# Altium schematic symbol library TI Logic Decoder Demux.SchLib: 333 symbols (part 7 of 7)
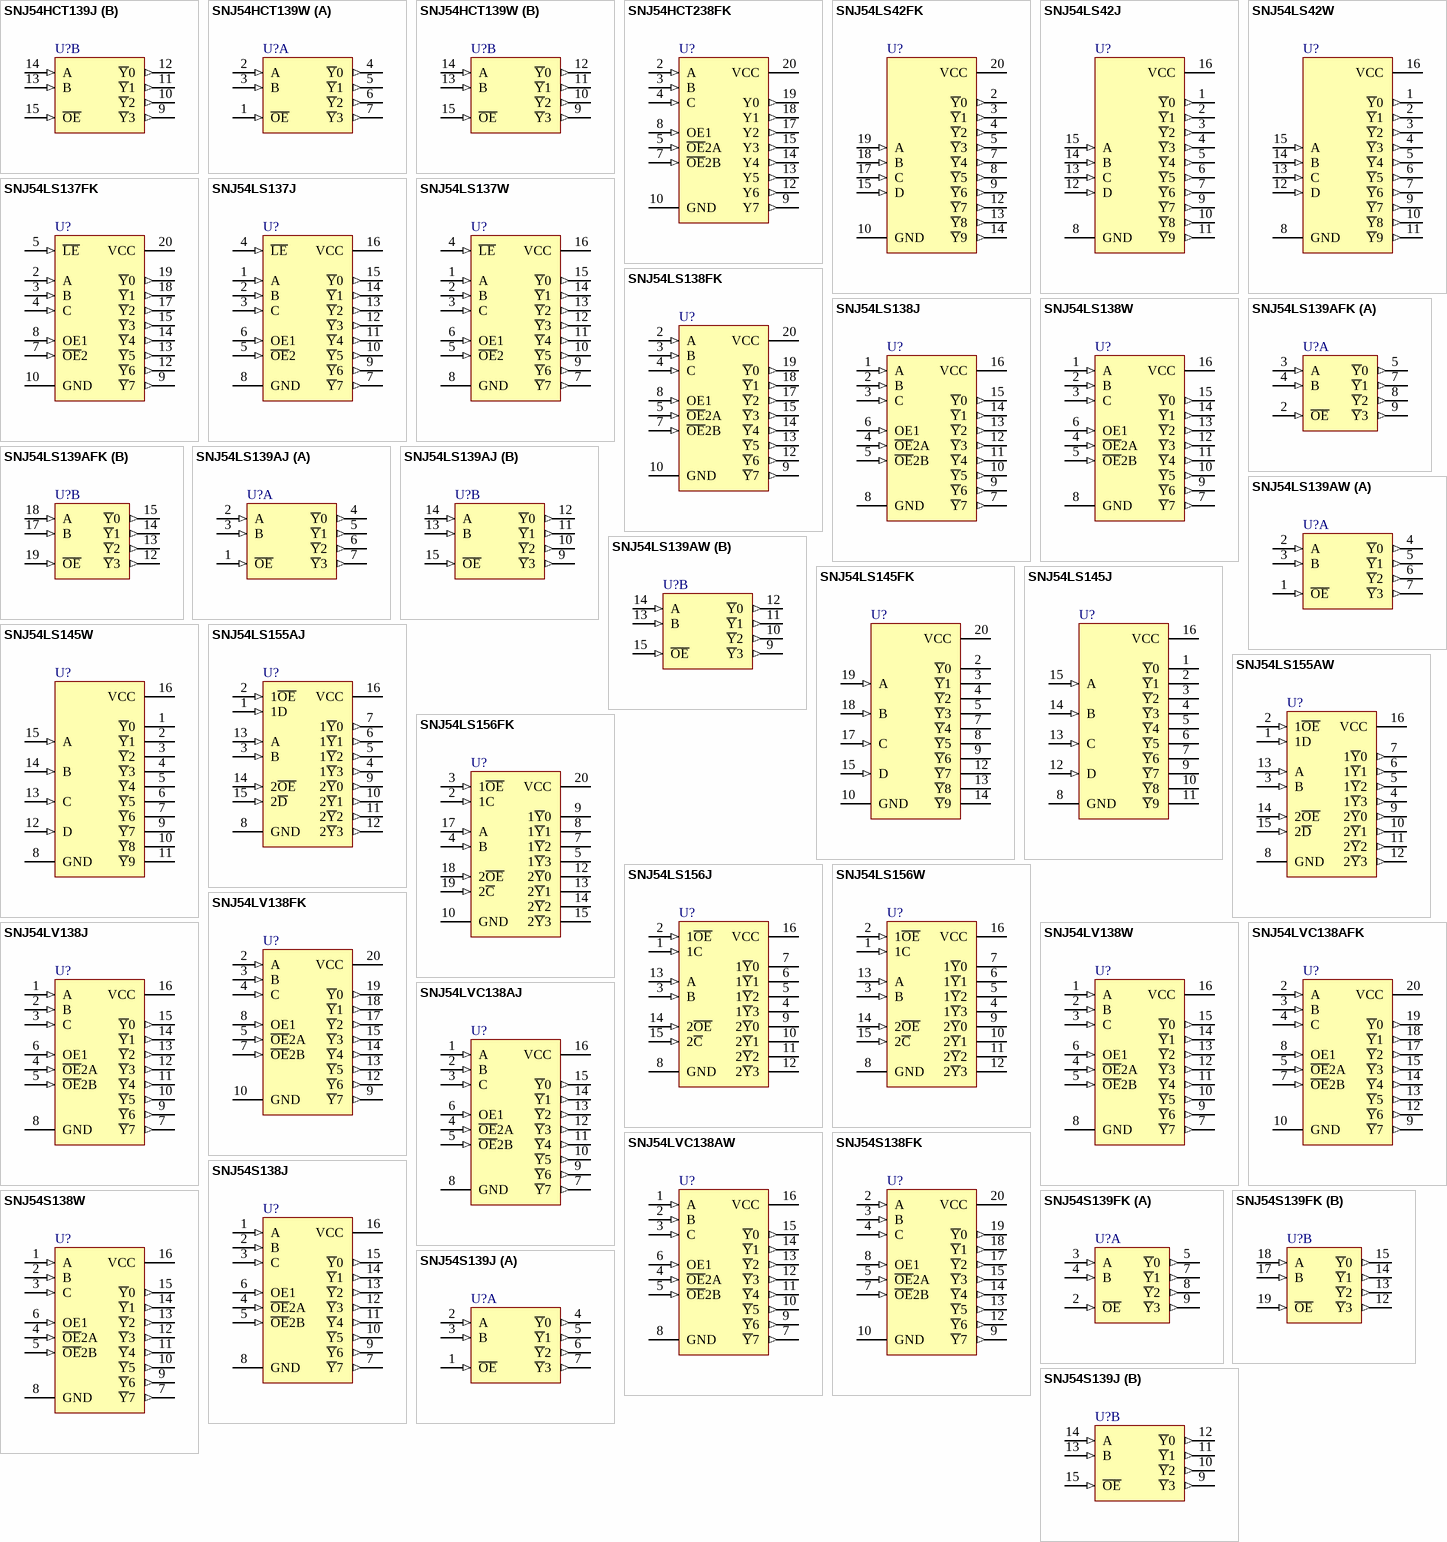
[diagram p16: symbols SNJ54HCT139J to SNJ54S139J]

## SNJ54HCT139W
designator U?
Dual 2-Line to 4-Line Decoder / Demultiplexer; Published: 8-Jun-2000; LatestRevisionDate: 04-Mar-2005; LatestRevisionNote: Stylized 3D Model Added.; DatasheetVersion: May-1997; PackageVersion: Jan-1995; PackageReference: W016; Publisher: Altium Limited; PackageDescription: DFP; 16 Leads; Body 10.9 x 7.2 mm (LxW max); Pitch 1.27 mm; Code_JEDEC: MO-092-AC; ComponentLink1Description: Manufacturer Link; ComponentLink1URL: http://www.ti.com/; ComponentLink2Description: Datasheet; ComponentLink2URL: http://www-s.ti.com/sc/ds/sn74hct139.pdf
footprint W016 (DFP; 16 Leads; Body 10.9 x 7.2 mm (LxW max); Pitch 1.27 mm)
3D model W016 (DFP; 16 Leads; Body 10.9 x 7.2 mm (LxW max); Pitch 1.27 mm)
signal-integrity model SNJ54HCT139W
pins on every part: 8 GND (power) hidden to GND, 16 VCC (power) hidden to VCC
part A pins: 1 ~{OE} (in), 2 A (in), 3 B (in), 4 ~{Y}0 (out), 5 ~{Y}1 (out), 6 ~{Y}2 (out), 7 ~{Y}3 (out)
part B pins: 9 ~{Y}3 (out), 10 ~{Y}2 (out), 11 ~{Y}1 (out), 12 ~{Y}0 (out), 13 B (in), 14 A (in), 15 ~{OE} (in)

## SNJ54HCT238FK
designator U?
3-Line to 8-Line Decoder / Demultiplexer; Note: Pins 1, 6, 11 and 16 are not connected and not drawn.; Published: 8-Jun-2000; LatestRevisionDate: 17-Jul-2002; LatestRevisionNote: Re-released for DXP Platform.; DatasheetVersion: Jun-1989; PackageVersion: 1998; PackageReference: FK020; Publisher: Altium Limited; PackageDescription: Leadless Chip Carrier; 20 Terminals; Body 8.9 x 8.9 mm; ComponentLink1Description: Manufacturer Link; ComponentLink1URL: http://www.ti.com/; ComponentLink2Description: URL Link1; ComponentLink2URL: http://focus.ti.com/docs/prod/folders/print/sn54hct238.html
footprint FK020 (Leadless Chip Carrier; 20 Terminals; Body 8.9 x 8.9 mm)
signal-integrity model SNJ54HCT238FK
pins: 2 A (in), 3 B (in), 4 C (in), 5 ~{OE}2A (in), 7 ~{OE}2B (in), 8 OE1 (in), 9 Y7 (out), 10 GND (power), 12 Y6 (out), 13 Y5 (out), 14 Y4 (out), 15 Y3 (out), 17 Y2 (out), 18 Y1 (out), 19 Y0 (out), 20 VCC (power)

## SNJ54LS42FK
designator U?
4-Line BCD to 10-Line Decimal Decoders; Note: Pins 1, 6, 11 and 16 are NC & are not drawn.; Published: 8-Jun-2000; LatestRevisionDate: 17-Jul-2002; LatestRevisionNote: Re-released for DXP Platform.; DatasheetVersion: Mar-1988; PackageVersion: 1998; PackageReference: FK020; Publisher: Altium Limited; PackageDescription: Leadless Chip Carrier; 20 Terminals; Body 8.9 x 8.9 mm; ComponentLink1Description: Manufacturer Link; ComponentLink1URL: http://www.ti.com/; ComponentLink2Description: Datasheet; ComponentLink2URL: http://www-s.ti.com/sc/ds/sn74ls42.pdf
footprint FK020 (Leadless Chip Carrier; 20 Terminals; Body 8.9 x 8.9 mm)
simulation model SN74LS42 (SIMCODE)
signal-integrity model SNJ54LS42FK
pins: 2 ~{Y}0 (out), 3 ~{Y}1 (out), 4 ~{Y}2 (out), 5 ~{Y}3 (out), 7 ~{Y}4 (out), 8 ~{Y}5 (out), 9 ~{Y}6 (out), 10 GND (power), 12 ~{Y}7 (out), 13 ~{Y}8 (out), 14 ~{Y}9 (out), 15 D (in), 17 C (in), 18 B (in), 19 A (in), 20 VCC (power)

## SNJ54LS42J
designator U?
4-Line BCD to 10-Line Decimal Decoders; Published: 8-Jun-2000; LatestRevisionDate: 04-Mar-2005; LatestRevisionNote: Stylized 3D Model Added.; DatasheetVersion: Mar-1988; PackageVersion: Jun-1999; PackageReference: J016; Publisher: Altium Limited; PackageDescription: DIP; 16 Leads; Row Spacing 7.62 mm; Pitch 2.54 mm; ComponentLink1Description: Manufacturer Link; ComponentLink1URL: http://www.ti.com/; ComponentLink2Description: Datasheet; ComponentLink2URL: http://www-s.ti.com/sc/ds/sn74ls42.pdf
footprint J016 (DIP; 16 Leads; Row Spacing 7.62 mm; Pitch 2.54 mm)
3D model J016 (DIP; 16 Leads; Row Spacing 7.62 mm; Pitch 2.54 mm)
simulation model SN74LS42 (SIMCODE)
signal-integrity model SNJ54LS42J
pins: 1 ~{Y}0 (out), 2 ~{Y}1 (out), 3 ~{Y}2 (out), 4 ~{Y}3 (out), 5 ~{Y}4 (out), 6 ~{Y}5 (out), 7 ~{Y}6 (out), 8 GND (power), 9 ~{Y}7 (out), 10 ~{Y}8 (out), 11 ~{Y}9 (out), 12 D (in), 13 C (in), 14 B (in), 15 A (in), 16 VCC (power)

## SNJ54LS42W
designator U?
4-Line BCD to 10-Line Decimal Decoders; Published: 8-Jun-2000; LatestRevisionDate: 04-Mar-2005; LatestRevisionNote: Stylized 3D Model Added.; DatasheetVersion: Mar-1988; PackageVersion: Jan-1995; PackageReference: W016; Publisher: Altium Limited; PackageDescription: DFP; 16 Leads; Body 10.9 x 7.2 mm (LxW max); Pitch 1.27 mm; Code_JEDEC: MO-092-AC; ComponentLink1Description: Manufacturer Link; ComponentLink1URL: http://www.ti.com/; ComponentLink2Description: Datasheet; ComponentLink2URL: http://www-s.ti.com/sc/ds/sn74ls42.pdf
footprint W016 (DFP; 16 Leads; Body 10.9 x 7.2 mm (LxW max); Pitch 1.27 mm)
3D model W016 (DFP; 16 Leads; Body 10.9 x 7.2 mm (LxW max); Pitch 1.27 mm)
simulation model SN74LS42 (SIMCODE)
signal-integrity model SNJ54LS42W
pins: 1 ~{Y}0 (out), 2 ~{Y}1 (out), 3 ~{Y}2 (out), 4 ~{Y}3 (out), 5 ~{Y}4 (out), 6 ~{Y}5 (out), 7 ~{Y}6 (out), 8 GND (power), 9 ~{Y}7 (out), 10 ~{Y}8 (out), 11 ~{Y}9 (out), 12 D (in), 13 C (in), 14 B (in), 15 A (in), 16 VCC (power)

## SNJ54LS137FK
designator U?
3-Line to 8-Line Decoder / Demultiplexer with Address Latches; Note: Pins 1, 6, 11 and 16 are not connected and not drawn.; ComponentAvailability: Obsolete; Published: 8-Jun-2000; LatestRevisionDate: 17-Jul-2002; LatestRevisionNote: Re-released for DXP Platform.; DatasheetVersion: Mar-1988; PackageVersion: 1998; PackageReference: FK020; Publisher: Altium Limited; PackageDescription: Leadless Chip Carrier; 20 Terminals; Body 8.9 x 8.9 mm; ComponentLink1Description: Manufacturer Link; ComponentLink1URL: http://www.ti.com/; ComponentLink2Description: Datasheet; ComponentLink2URL: http://www-s.ti.com/sc/ds/sn74ls137.pdf
footprint FK020 (Leadless Chip Carrier; 20 Terminals; Body 8.9 x 8.9 mm)
signal-integrity model SNJ54LS137FK
pins: 2 A (in), 3 B (in), 4 C (in), 5 ~{LE} (in), 7 ~{OE}2 (in), 8 OE1 (in), 9 ~{Y}7 (out), 10 GND (power), 12 ~{Y}6 (out), 13 ~{Y}5 (out), 14 ~{Y}4 (out), 15 ~{Y}3 (out), 17 ~{Y}2 (out), 18 ~{Y}1 (out), 19 ~{Y}0 (out), 20 VCC (power)

## SNJ54LS137J
designator U?
3-Line to 8-Line Decoder / Demultiplexer with Address Latches; Published: 8-Jun-2000; LatestRevisionDate: 04-Mar-2005; LatestRevisionNote: Stylized 3D Model Added.; DatasheetVersion: Mar-1988; PackageVersion: Jun-1999; PackageReference: J016; Publisher: Altium Limited; PackageDescription: DIP; 16 Leads; Row Spacing 7.62 mm; Pitch 2.54 mm; ComponentLink1Description: Manufacturer Link; ComponentLink1URL: http://www.ti.com/; ComponentLink2Description: Datasheet; ComponentLink2URL: http://www-s.ti.com/sc/ds/sn74ls137.pdf
footprint J016 (DIP; 16 Leads; Row Spacing 7.62 mm; Pitch 2.54 mm)
3D model J016 (DIP; 16 Leads; Row Spacing 7.62 mm; Pitch 2.54 mm)
signal-integrity model SNJ54LS137J
pins: 1 A (in), 2 B (in), 3 C (in), 4 ~{LE} (in), 5 ~{OE}2 (in), 6 OE1 (in), 7 ~{Y}7 (out), 8 GND (power), 9 ~{Y}6 (out), 10 ~{Y}5 (out), 11 ~{Y}4 (out), 12 ~{Y}3 (out), 13 ~{Y}2 (out), 14 ~{Y}1 (out), 15 ~{Y}0 (out), 16 VCC (power)

## SNJ54LS137W
designator U?
3-Line to 8-Line Decoder / Demultiplexer with Address Latches; ComponentAvailability: Obsolete; Published: 8-Jun-2000; LatestRevisionDate: 04-Mar-2005; LatestRevisionNote: Stylized 3D Model Added.; DatasheetVersion: Mar-1988; PackageVersion: Jan-1995; PackageReference: W016; Publisher: Altium Limited; PackageDescription: DFP; 16 Leads; Body 10.9 x 7.2 mm (LxW max); Pitch 1.27 mm; Code_JEDEC: MO-092-AC; ComponentLink1Description: Manufacturer Link; ComponentLink1URL: http://www.ti.com/; ComponentLink2Description: Datasheet; ComponentLink2URL: http://www-s.ti.com/sc/ds/sn74ls137.pdf
footprint W016 (DFP; 16 Leads; Body 10.9 x 7.2 mm (LxW max); Pitch 1.27 mm)
3D model W016 (DFP; 16 Leads; Body 10.9 x 7.2 mm (LxW max); Pitch 1.27 mm)
signal-integrity model SNJ54LS137W
pins: 1 A (in), 2 B (in), 3 C (in), 4 ~{LE} (in), 5 ~{OE}2 (in), 6 OE1 (in), 7 ~{Y}7 (out), 8 GND (power), 9 ~{Y}6 (out), 10 ~{Y}5 (out), 11 ~{Y}4 (out), 12 ~{Y}3 (out), 13 ~{Y}2 (out), 14 ~{Y}1 (out), 15 ~{Y}0 (out), 16 VCC (power)

## SNJ54LS138FK
designator U?
3-Line to 8-Line Decoder / Demultiplexer; Note: Pins 1, 6, 11 and 16 are NC & are not drawn.; Published: 8-Jun-2000; LatestRevisionDate: 17-Jul-2002; LatestRevisionNote: Re-released for DXP Platform.; DatasheetVersion: Mar-1988; PackageVersion: 1998; PackageReference: FK020; Publisher: Altium Limited; PackageDescription: Leadless Chip Carrier; 20 Terminals; Body 8.9 x 8.9 mm; ComponentLink1Description: Manufacturer Link; ComponentLink1URL: http://www.ti.com/; ComponentLink2Description: Datasheet; ComponentLink2URL: http://www-s.ti.com/sc/ds/sn74ls138.pdf
footprint FK020 (Leadless Chip Carrier; 20 Terminals; Body 8.9 x 8.9 mm)
simulation model SN74LS138 (SIMCODE)
signal-integrity model SNJ54LS138FK
pins: 2 A (in), 3 B (in), 4 C (in), 5 ~{OE}2A (in), 7 ~{OE}2B (in), 8 OE1 (in), 9 ~{Y}7 (out), 10 GND (power), 12 ~{Y}6 (out), 13 ~{Y}5 (out), 14 ~{Y}4 (out), 15 ~{Y}3 (out), 17 ~{Y}2 (out), 18 ~{Y}1 (out), 19 ~{Y}0 (out), 20 VCC (power)

## SNJ54LS138J
designator U?
3-Line to 8-Line Decoder / Demultiplexer; Published: 8-Jun-2000; LatestRevisionDate: 04-Mar-2005; LatestRevisionNote: Stylized 3D Model Added.; DatasheetVersion: Mar-1988; PackageVersion: Jun-1999; PackageReference: J016; Publisher: Altium Limited; PackageDescription: DIP; 16 Leads; Row Spacing 7.62 mm; Pitch 2.54 mm; ComponentLink1Description: Manufacturer Link; ComponentLink1URL: http://www.ti.com/; ComponentLink2Description: Datasheet; ComponentLink2URL: http://www-s.ti.com/sc/ds/sn74ls138.pdf
footprint J016 (DIP; 16 Leads; Row Spacing 7.62 mm; Pitch 2.54 mm)
3D model J016 (DIP; 16 Leads; Row Spacing 7.62 mm; Pitch 2.54 mm)
simulation model SN74LS138 (SIMCODE)
signal-integrity model SNJ54LS138J
pins: 1 A (in), 2 B (in), 3 C (in), 4 ~{OE}2A (in), 5 ~{OE}2B (in), 6 OE1 (in), 7 ~{Y}7 (out), 8 GND (power), 9 ~{Y}6 (out), 10 ~{Y}5 (out), 11 ~{Y}4 (out), 12 ~{Y}3 (out), 13 ~{Y}2 (out), 14 ~{Y}1 (out), 15 ~{Y}0 (out), 16 VCC (power)

## SNJ54LS138W
designator U?
3-Line to 8-Line Decoder / Demultiplexer; Published: 8-Jun-2000; LatestRevisionDate: 04-Mar-2005; LatestRevisionNote: Stylized 3D Model Added.; DatasheetVersion: Mar-1988; PackageVersion: Jan-1995; PackageReference: W016; Publisher: Altium Limited; PackageDescription: DFP; 16 Leads; Body 10.9 x 7.2 mm (LxW max); Pitch 1.27 mm; Code_JEDEC: MO-092-AC; ComponentLink1Description: Manufacturer Link; ComponentLink1URL: http://www.ti.com/; ComponentLink2Description: Datasheet; ComponentLink2URL: http://www-s.ti.com/sc/ds/sn74ls138.pdf
footprint W016 (DFP; 16 Leads; Body 10.9 x 7.2 mm (LxW max); Pitch 1.27 mm)
3D model W016 (DFP; 16 Leads; Body 10.9 x 7.2 mm (LxW max); Pitch 1.27 mm)
simulation model SN74LS138 (SIMCODE)
signal-integrity model SNJ54LS138W
pins: 1 A (in), 2 B (in), 3 C (in), 4 ~{OE}2A (in), 5 ~{OE}2B (in), 6 OE1 (in), 7 ~{Y}7 (out), 8 GND (power), 9 ~{Y}6 (out), 10 ~{Y}5 (out), 11 ~{Y}4 (out), 12 ~{Y}3 (out), 13 ~{Y}2 (out), 14 ~{Y}1 (out), 15 ~{Y}0 (out), 16 VCC (power)

## SNJ54LS139AFK
designator U?
Dual 2-Line to 4-Line Decoder / Demultiplexer; Note: Pins 1, 6, 11 and 16 are NC & are not drawn.; Published: 8-Jun-2000; LatestRevisionDate: 17-Jul-2002; LatestRevisionNote: Re-released for DXP Platform.; DatasheetVersion: Mar-1988; PackageVersion: 1998; PackageReference: FK020; Publisher: Altium Limited; PackageDescription: Leadless Chip Carrier; 20 Terminals; Body 8.9 x 8.9 mm; ComponentLink1Description: Manufacturer Link; ComponentLink1URL: http://www.ti.com/; ComponentLink2Description: Datasheet; ComponentLink2URL: http://www-s.ti.com/sc/ds/sn74ls139a.pdf
footprint FK020 (Leadless Chip Carrier; 20 Terminals; Body 8.9 x 8.9 mm)
simulation model SN74LS139 (SIMCODE)
signal-integrity model SNJ54LS139AFK
pins on every part: 10 GND (power) hidden to GND, 20 VCC (power) hidden to VCC
part A pins: 2 ~{OE} (in), 3 A (in), 4 B (in), 5 ~{Y}0 (out), 7 ~{Y}1 (out), 8 ~{Y}2 (out), 9 ~{Y}3 (out)
part B pins: 12 ~{Y}3 (out), 13 ~{Y}2 (out), 14 ~{Y}1 (out), 15 ~{Y}0 (out), 17 B (in), 18 A (in), 19 ~{OE} (in)

## SNJ54LS139AJ
designator U?
Dual 2-Line to 4-Line Decoder / Demultiplexer; Published: 8-Jun-2000; LatestRevisionDate: 04-Mar-2005; LatestRevisionNote: Stylized 3D Model Added.; DatasheetVersion: Mar-1988; PackageVersion: Jun-1999; PackageReference: J016; Publisher: Altium Limited; PackageDescription: DIP; 16 Leads; Row Spacing 7.62 mm; Pitch 2.54 mm; ComponentLink1Description: Manufacturer Link; ComponentLink1URL: http://www.ti.com/; ComponentLink2Description: Datasheet; ComponentLink2URL: http://www-s.ti.com/sc/ds/sn74ls139a.pdf
footprint J016 (DIP; 16 Leads; Row Spacing 7.62 mm; Pitch 2.54 mm)
3D model J016 (DIP; 16 Leads; Row Spacing 7.62 mm; Pitch 2.54 mm)
simulation model SN74LS139 (SIMCODE)
signal-integrity model SNJ54LS139AJ
pins on every part: 8 GND (power) hidden to GND, 16 VCC (power) hidden to VCC
part A pins: 1 ~{OE} (in), 2 A (in), 3 B (in), 4 ~{Y}0 (out), 5 ~{Y}1 (out), 6 ~{Y}2 (out), 7 ~{Y}3 (out)
part B pins: 9 ~{Y}3 (out), 10 ~{Y}2 (out), 11 ~{Y}1 (out), 12 ~{Y}0 (out), 13 B (in), 14 A (in), 15 ~{OE} (in)

## SNJ54LS139AW
designator U?
Dual 2-Line to 4-Line Decoder / Demultiplexer; Published: 8-Jun-2000; LatestRevisionDate: 04-Mar-2005; LatestRevisionNote: Stylized 3D Model Added.; DatasheetVersion: Mar-1988; PackageVersion: Jan-1995; PackageReference: W016; Publisher: Altium Limited; PackageDescription: DFP; 16 Leads; Body 10.9 x 7.2 mm (LxW max); Pitch 1.27 mm; Code_JEDEC: MO-092-AC; ComponentLink1Description: Manufacturer Link; ComponentLink1URL: http://www.ti.com/; ComponentLink2Description: Datasheet; ComponentLink2URL: http://www-s.ti.com/sc/ds/sn74ls139a.pdf
footprint W016 (DFP; 16 Leads; Body 10.9 x 7.2 mm (LxW max); Pitch 1.27 mm)
3D model W016 (DFP; 16 Leads; Body 10.9 x 7.2 mm (LxW max); Pitch 1.27 mm)
simulation model SN74LS139 (SIMCODE)
signal-integrity model SNJ54LS139AW
pins on every part: 8 GND (power) hidden to GND, 16 VCC (power) hidden to VCC
part A pins: 1 ~{OE} (in), 2 A (in), 3 B (in), 4 ~{Y}0 (out), 5 ~{Y}1 (out), 6 ~{Y}2 (out), 7 ~{Y}3 (out)
part B pins: 9 ~{Y}3 (out), 10 ~{Y}2 (out), 11 ~{Y}1 (out), 12 ~{Y}0 (out), 13 B (in), 14 A (in), 15 ~{OE} (in)

## SNJ54LS145FK
designator U?
BCD-to-Decimal Decoders / Drivers; Note: Pins 1, 6, 11 and 16 are not connected and not drawn.; Published: 8-Jun-2000; LatestRevisionDate: 17-Jul-2002; LatestRevisionNote: Re-released for DXP Platform.; DatasheetVersion: Mar-1988; PackageVersion: 1998; PackageReference: FK020; Publisher: Altium Limited; PackageDescription: Leadless Chip Carrier; 20 Terminals; Body 8.9 x 8.9 mm; ComponentLink1Description: Manufacturer Link; ComponentLink1URL: http://www.ti.com/; ComponentLink2Description: Datasheet; ComponentLink2URL: http://www-s.ti.com/sc/ds/sn74ls145.pdf
footprint FK020 (Leadless Chip Carrier; 20 Terminals; Body 8.9 x 8.9 mm)
signal-integrity model SNJ54LS145FK
pins: 2 ~{Y}0 (oc), 3 ~{Y}1 (oc), 4 ~{Y}2 (oc), 5 ~{Y}3 (oc), 7 ~{Y}4 (oc), 8 ~{Y}5 (oc), 9 ~{Y}6 (oc), 10 GND (power), 12 ~{Y}7 (oc), 13 ~{Y}8 (oc), 14 ~{Y}9 (oc), 15 D (in), 17 C (in), 18 B (in), 19 A (in), 20 VCC (power)

## SNJ54LS145J
designator U?
BCD-to-Decimal Decoders / Drivers; Published: 8-Jun-2000; LatestRevisionDate: 04-Mar-2005; LatestRevisionNote: Stylized 3D Model Added.; DatasheetVersion: Mar-1988; PackageVersion: Jun-1999; PackageReference: J016D; Publisher: Altium Limited; PackageDescription: DIP; 16 Leads; Row Spacing 7.62 mm; Pitch 2.54 mm; ComponentLink1Description: Manufacturer Link; ComponentLink1URL: http://www.ti.com/; ComponentLink2Description: Datasheet; ComponentLink2URL: http://www-s.ti.com/sc/ds/sn74ls145.pdf
footprint J016D (DIP; 16 Leads; Row Spacing 7.62 mm; Pitch 2.54 mm)
3D model J016 (DIP; 16 Leads; Row Spacing 7.62 mm; Pitch 2.54 mm)
signal-integrity model SNJ54LS145J
pins: 1 ~{Y}0 (oc), 2 ~{Y}1 (oc), 3 ~{Y}2 (oc), 4 ~{Y}3 (oc), 5 ~{Y}4 (oc), 6 ~{Y}5 (oc), 7 ~{Y}6 (oc), 8 GND (power), 9 ~{Y}7 (oc), 10 ~{Y}8 (oc), 11 ~{Y}9 (oc), 12 D (in), 13 C (in), 14 B (in), 15 A (in), 16 VCC (power)

## SNJ54LS145W
designator U?
BCD-to-Decimal Decoders / Drivers; Published: 8-Jun-2000; LatestRevisionDate: 04-Mar-2005; LatestRevisionNote: Stylized 3D Model Added.; DatasheetVersion: Mar-1988; PackageVersion: Jan-1995; PackageReference: W016; Publisher: Altium Limited; PackageDescription: DFP; 16 Leads; Body 10.9 x 7.2 mm (LxW max); Pitch 1.27 mm; Code_JEDEC: MO-092-AC; ComponentLink1Description: Manufacturer Link; ComponentLink1URL: http://www.ti.com/; ComponentLink2Description: Datasheet; ComponentLink2URL: http://www-s.ti.com/sc/ds/sn74ls145.pdf
footprint W016 (DFP; 16 Leads; Body 10.9 x 7.2 mm (LxW max); Pitch 1.27 mm)
3D model W016 (DFP; 16 Leads; Body 10.9 x 7.2 mm (LxW max); Pitch 1.27 mm)
signal-integrity model SNJ54LS145W
pins: 1 ~{Y}0 (oc), 2 ~{Y}1 (oc), 3 ~{Y}2 (oc), 4 ~{Y}3 (oc), 5 ~{Y}4 (oc), 6 ~{Y}5 (oc), 7 ~{Y}6 (oc), 8 GND (power), 9 ~{Y}7 (oc), 10 ~{Y}8 (oc), 11 ~{Y}9 (oc), 12 D (in), 13 C (in), 14 B (in), 15 A (in), 16 VCC (power)

## SNJ54LS155AJ
designator U?
Dual 2-Line to 4-Line Decoder / Demultiplexer; Published: 8-Jun-2000; LatestRevisionDate: 04-Mar-2005; LatestRevisionNote: Stylized 3D Model Added.; DatasheetVersion: Mar-1988; PackageVersion: Jun-1999; PackageReference: J016; Publisher: Altium Limited; PackageDescription: DIP; 16 Leads; Row Spacing 7.62 mm; Pitch 2.54 mm; ComponentLink1Description: Manufacturer Link; ComponentLink1URL: http://www.ti.com/; ComponentLink2Description: Datasheet; ComponentLink2URL: http://www-s.ti.com/sc/ds/sn74ls155a.pdf
footprint J016 (DIP; 16 Leads; Row Spacing 7.62 mm; Pitch 2.54 mm)
3D model J016 (DIP; 16 Leads; Row Spacing 7.62 mm; Pitch 2.54 mm)
simulation model SN74LS155 (SIMCODE)
signal-integrity model SNJ54LS155AJ
pins: 1 1D (in), 2 1~{OE} (in), 3 B (in), 4 1~{Y}3 (out), 5 1~{Y}2 (out), 6 1~{Y}1 (out), 7 1~{Y}0 (out), 8 GND (power), 9 2~{Y}0 (out), 10 2~{Y}1 (out), 11 2~{Y}2 (out), 12 2~{Y}3 (out), 13 A (in), 14 2~{OE} (in), 15 2~{D} (in), 16 VCC (power)

## SNJ54LS155AW
designator U?
Dual 2-Line to 4-Line Decoder / Demultiplexer; Published: 8-Jun-2000; LatestRevisionDate: 04-Mar-2005; LatestRevisionNote: Stylized 3D Model Added.; DatasheetVersion: Mar-1988; PackageVersion: Jan-1995; PackageReference: W016; Publisher: Altium Limited; PackageDescription: DFP; 16 Leads; Body 10.9 x 7.2 mm (LxW max); Pitch 1.27 mm; Code_JEDEC: MO-092-AC; ComponentLink1Description: Manufacturer Link; ComponentLink1URL: http://www.ti.com/; ComponentLink2Description: Datasheet; ComponentLink2URL: http://www-s.ti.com/sc/ds/sn74ls155a.pdf
footprint W016 (DFP; 16 Leads; Body 10.9 x 7.2 mm (LxW max); Pitch 1.27 mm)
3D model W016 (DFP; 16 Leads; Body 10.9 x 7.2 mm (LxW max); Pitch 1.27 mm)
simulation model SN74LS155 (SIMCODE)
signal-integrity model SNJ54LS155AW
pins: 1 1D (in), 2 1~{OE} (in), 3 B (in), 4 1~{Y}3 (out), 5 1~{Y}2 (out), 6 1~{Y}1 (out), 7 1~{Y}0 (out), 8 GND (power), 9 2~{Y}0 (out), 10 2~{Y}1 (out), 11 2~{Y}2 (out), 12 2~{Y}3 (out), 13 A (in), 14 2~{OE} (in), 15 2~{D} (in), 16 VCC (power)

## SNJ54LS156FK
designator U?
Dual 2-Line to 4-Line Decoder / Demultiplexer; Note: Pins 1, 6, 11 and 16 are NC & are not drawn.; ComponentAvailability: Obsolete; Published: 8-Jun-2000; LatestRevisionDate: 17-Jul-2002; LatestRevisionNote: Re-released for DXP Platform.; DatasheetVersion: Mar-1988; PackageVersion: 1998; PackageReference: FK020; Publisher: Altium Limited; PackageDescription: Leadless Chip Carrier; 20 Terminals; Body 8.9 x 8.9 mm; ComponentLink1Description: Manufacturer Link; ComponentLink1URL: http://www.ti.com/; ComponentLink2Description: Datasheet; ComponentLink2URL: http://www-s.ti.com/sc/ds/sn74ls156.pdf
footprint FK020 (Leadless Chip Carrier; 20 Terminals; Body 8.9 x 8.9 mm)
simulation model SN74LS156 (SIMCODE)
signal-integrity model SNJ54LS156FK
pins: 2 1C (in), 3 1~{OE} (in), 4 B (in), 5 1~{Y}3 (oc), 7 1~{Y}2 (oc), 8 1~{Y}1 (oc), 9 1~{Y}0 (oc), 10 GND (power), 12 2~{Y}0 (oc), 13 2~{Y}1 (oc), 14 2~{Y}2 (oc), 15 2~{Y}3 (oc), 17 A (in), 18 2~{OE} (in), 19 2~{C} (in), 20 VCC (power)

## SNJ54LS156J
designator U?
Dual 2-Line to 4-Line Decoder / Demultiplexer; Published: 8-Jun-2000; LatestRevisionDate: 04-Mar-2005; LatestRevisionNote: Stylized 3D Model Added.; DatasheetVersion: Mar-1988; PackageVersion: Jun-1999; PackageReference: J016D; Publisher: Altium Limited; PackageDescription: DIP; 16 Leads; Row Spacing 7.62 mm; Pitch 2.54 mm; ComponentLink1Description: Manufacturer Link; ComponentLink1URL: http://www.ti.com/; ComponentLink2Description: Datasheet; ComponentLink2URL: http://www-s.ti.com/sc/ds/sn74ls156.pdf
footprint J016D (DIP; 16 Leads; Row Spacing 7.62 mm; Pitch 2.54 mm)
3D model J016 (DIP; 16 Leads; Row Spacing 7.62 mm; Pitch 2.54 mm)
simulation model SN74LS156 (SIMCODE)
signal-integrity model SNJ54LS156J
pins: 1 1C (in), 2 1~{OE} (in), 3 B (in), 4 1~{Y}3 (oc), 5 1~{Y}2 (oc), 6 1~{Y}1 (oc), 7 1~{Y}0 (oc), 8 GND (power), 9 2~{Y}0 (oc), 10 2~{Y}1 (oc), 11 2~{Y}2 (oc), 12 2~{Y}3 (oc), 13 A (in), 14 2~{OE} (in), 15 2~{C} (in), 16 VCC (power)

## SNJ54LS156W
designator U?
Dual 2-Line to 4-Line Decoder / Demultiplexer; Published: 8-Jun-2000; LatestRevisionDate: 04-Mar-2005; LatestRevisionNote: Stylized 3D Model Added.; DatasheetVersion: Mar-1988; PackageVersion: Jan-1995; PackageReference: W016; Publisher: Altium Limited; PackageDescription: DFP; 16 Leads; Body 10.9 x 7.2 mm (LxW max); Pitch 1.27 mm; Code_JEDEC: MO-092-AC; ComponentLink1Description: Manufacturer Link; ComponentLink1URL: http://www.ti.com/; ComponentLink2Description: Datasheet; ComponentLink2URL: http://www-s.ti.com/sc/ds/sn74ls156.pdf
footprint W016 (DFP; 16 Leads; Body 10.9 x 7.2 mm (LxW max); Pitch 1.27 mm)
3D model W016 (DFP; 16 Leads; Body 10.9 x 7.2 mm (LxW max); Pitch 1.27 mm)
simulation model SN74LS156 (SIMCODE)
signal-integrity model SNJ54LS156W
pins: 1 1C (in), 2 1~{OE} (in), 3 B (in), 4 1~{Y}3 (oc), 5 1~{Y}2 (oc), 6 1~{Y}1 (oc), 7 1~{Y}0 (oc), 8 GND (power), 9 2~{Y}0 (oc), 10 2~{Y}1 (oc), 11 2~{Y}2 (oc), 12 2~{Y}3 (oc), 13 A (in), 14 2~{OE} (in), 15 2~{C} (in), 16 VCC (power)

## SNJ54LV138FK
designator U?
3-Line to 8-Line Decoder / Demultiplexer; Note: Pins 1, 6, 11 and 16 are not connected and not drawn.; Published: 8-Jun-2000; LatestRevisionDate: 17-Jul-2002; LatestRevisionNote: Re-released for DXP Platform.; DatasheetVersion: Jul-1996; PackageVersion: 1998; PackageReference: FK020; Publisher: Altium Limited; PackageDescription: Leadless Chip Carrier; 20 Terminals; Body 8.9 x 8.9 mm; ComponentLink1Description: Manufacturer Link; ComponentLink1URL: http://www.ti.com/; ComponentLink2Description: Datasheet; ComponentLink2URL: http://www-s.ti.com/sc/ds/sn74lv138.pdf
footprint FK020 (Leadless Chip Carrier; 20 Terminals; Body 8.9 x 8.9 mm)
signal-integrity model SNJ54LV138FK
pins: 2 A (in), 3 B (in), 4 C (in), 5 ~{OE}2A (in), 7 ~{OE}2B (in), 8 OE1 (in), 9 ~{Y}7 (out), 10 GND (power), 12 ~{Y}6 (out), 13 ~{Y}5 (out), 14 ~{Y}4 (out), 15 ~{Y}3 (out), 17 ~{Y}2 (out), 18 ~{Y}1 (out), 19 ~{Y}0 (out), 20 VCC (power)

## SNJ54LV138J
designator U?
3-Line to 8-Line Decoder / Demultiplexer; Published: 8-Jun-2000; LatestRevisionDate: 04-Mar-2005; LatestRevisionNote: Stylized 3D Model Added.; DatasheetVersion: Jul-1996; PackageVersion: Jun-1999; PackageReference: J016; Publisher: Altium Limited; PackageDescription: DIP; 16 Leads; Row Spacing 7.62 mm; Pitch 2.54 mm; ComponentLink1Description: Manufacturer Link; ComponentLink1URL: http://www.ti.com/; ComponentLink2Description: Datasheet; ComponentLink2URL: http://www-s.ti.com/sc/ds/sn74lv138.pdf
footprint J016 (DIP; 16 Leads; Row Spacing 7.62 mm; Pitch 2.54 mm)
3D model J016 (DIP; 16 Leads; Row Spacing 7.62 mm; Pitch 2.54 mm)
signal-integrity model SNJ54LV138J
pins: 1 A (in), 2 B (in), 3 C (in), 4 ~{OE}2A (in), 5 ~{OE}2B (in), 6 OE1 (in), 7 ~{Y}7 (out), 8 GND (power), 9 ~{Y}6 (out), 10 ~{Y}5 (out), 11 ~{Y}4 (out), 12 ~{Y}3 (out), 13 ~{Y}2 (out), 14 ~{Y}1 (out), 15 ~{Y}0 (out), 16 VCC (power)

## SNJ54LV138W
designator U?
3-Line to 8-Line Decoder / Demultiplexer; Published: 8-Jun-2000; LatestRevisionDate: 04-Mar-2005; LatestRevisionNote: Stylized 3D Model Added.; DatasheetVersion: Jul-1996; PackageVersion: Jan-1995; PackageReference: W016; Publisher: Altium Limited; PackageDescription: DFP; 16 Leads; Body 10.9 x 7.2 mm (LxW max); Pitch 1.27 mm; Code_JEDEC: MO-092-AC; ComponentLink1Description: Manufacturer Link; ComponentLink1URL: http://www.ti.com/; ComponentLink2Description: Datasheet; ComponentLink2URL: http://www-s.ti.com/sc/ds/sn74lv138.pdf
footprint W016 (DFP; 16 Leads; Body 10.9 x 7.2 mm (LxW max); Pitch 1.27 mm)
3D model W016 (DFP; 16 Leads; Body 10.9 x 7.2 mm (LxW max); Pitch 1.27 mm)
signal-integrity model SNJ54LV138W
pins: 1 A (in), 2 B (in), 3 C (in), 4 ~{OE}2A (in), 5 ~{OE}2B (in), 6 OE1 (in), 7 ~{Y}7 (out), 8 GND (power), 9 ~{Y}6 (out), 10 ~{Y}5 (out), 11 ~{Y}4 (out), 12 ~{Y}3 (out), 13 ~{Y}2 (out), 14 ~{Y}1 (out), 15 ~{Y}0 (out), 16 VCC (power)

## SNJ54LVC138AFK
designator U?
3-Line to 8-Line Decoder / Demultiplexer; Note: Pins 1, 6, 11 and 16 are not connected and not drawn.; Published: 8-Jun-2000; LatestRevisionDate: 17-Jul-2002; LatestRevisionNote: Re-released for DXP Platform.; DatasheetVersion: Oct-1998; PackageVersion: 1998; PackageReference: FK020; Publisher: Altium Limited; PackageDescription: Leadless Chip Carrier; 20 Terminals; Body 8.9 x 8.9 mm; ComponentLink1Description: Manufacturer Link; ComponentLink1URL: http://www.ti.com/; ComponentLink2Description: Datasheet; ComponentLink2URL: http://www-s.ti.com/sc/ds/sn74lvc138a.pdf
footprint FK020 (Leadless Chip Carrier; 20 Terminals; Body 8.9 x 8.9 mm)
signal-integrity model SNJ54LVC138AFK
pins: 2 A (in), 3 B (in), 4 C (in), 5 ~{OE}2A (in), 7 ~{OE}2B (in), 8 OE1 (in), 9 ~{Y}7 (out), 10 GND (power), 12 ~{Y}6 (out), 13 ~{Y}5 (out), 14 ~{Y}4 (out), 15 ~{Y}3 (out), 17 ~{Y}2 (out), 18 ~{Y}1 (out), 19 ~{Y}0 (out), 20 VCC (power)

## SNJ54LVC138AJ
designator U?
3-Line to 8-Line Decoder / Demultiplexer; Published: 8-Jun-2000; LatestRevisionDate: 04-Mar-2005; LatestRevisionNote: Stylized 3D Model Added.; DatasheetVersion: Oct-1998; PackageVersion: Jun-1999; PackageReference: J016; Publisher: Altium Limited; PackageDescription: DIP; 16 Leads; Row Spacing 7.62 mm; Pitch 2.54 mm; ComponentLink1Description: Manufacturer Link; ComponentLink1URL: http://www.ti.com/; ComponentLink2Description: Datasheet; ComponentLink2URL: http://www-s.ti.com/sc/ds/sn74lvc138a.pdf
footprint J016 (DIP; 16 Leads; Row Spacing 7.62 mm; Pitch 2.54 mm)
3D model J016 (DIP; 16 Leads; Row Spacing 7.62 mm; Pitch 2.54 mm)
signal-integrity model SNJ54LVC138AJ
pins: 1 A (in), 2 B (in), 3 C (in), 4 ~{OE}2A (in), 5 ~{OE}2B (in), 6 OE1 (in), 7 ~{Y}7 (out), 8 GND (power), 9 ~{Y}6 (out), 10 ~{Y}5 (out), 11 ~{Y}4 (out), 12 ~{Y}3 (out), 13 ~{Y}2 (out), 14 ~{Y}1 (out), 15 ~{Y}0 (out), 16 VCC (power)

## SNJ54LVC138AW
designator U?
3-Line to 8-Line Decoder / Demultiplexer; Published: 8-Jun-2000; LatestRevisionDate: 04-Mar-2005; LatestRevisionNote: Stylized 3D Model Added.; DatasheetVersion: Oct-1998; PackageVersion: Jan-1995; PackageReference: W016; Publisher: Altium Limited; PackageDescription: DFP; 16 Leads; Body 10.9 x 7.2 mm (LxW max); Pitch 1.27 mm; Code_JEDEC: MO-092-AC; ComponentLink1Description: Manufacturer Link; ComponentLink1URL: http://www.ti.com/; ComponentLink2Description: Datasheet; ComponentLink2URL: http://www-s.ti.com/sc/ds/sn74lvc138a.pdf
footprint W016 (DFP; 16 Leads; Body 10.9 x 7.2 mm (LxW max); Pitch 1.27 mm)
3D model W016 (DFP; 16 Leads; Body 10.9 x 7.2 mm (LxW max); Pitch 1.27 mm)
signal-integrity model SNJ54LVC138AW
pins: 1 A (in), 2 B (in), 3 C (in), 4 ~{OE}2A (in), 5 ~{OE}2B (in), 6 OE1 (in), 7 ~{Y}7 (out), 8 GND (power), 9 ~{Y}6 (out), 10 ~{Y}5 (out), 11 ~{Y}4 (out), 12 ~{Y}3 (out), 13 ~{Y}2 (out), 14 ~{Y}1 (out), 15 ~{Y}0 (out), 16 VCC (power)

## SNJ54S138FK
designator U?
3-Line to 8-Line Decoder / Demultiplexer; Note: Pins 1, 6, 11 and 16 are not connected and not drawn.; Published: 8-Jun-2000; LatestRevisionDate: 17-Jul-2002; LatestRevisionNote: Re-released for DXP Platform.; DatasheetVersion: Mar-1988; PackageVersion: 1998; PackageReference: FK020; Publisher: Altium Limited; PackageDescription: Leadless Chip Carrier; 20 Terminals; Body 8.9 x 8.9 mm; ComponentLink1Description: Manufacturer Link; ComponentLink1URL: http://www.ti.com/; ComponentLink2Description: Datasheet; ComponentLink2URL: http://www-s.ti.com/sc/ds/sn74ls138.pdf
footprint FK020 (Leadless Chip Carrier; 20 Terminals; Body 8.9 x 8.9 mm)
signal-integrity model SNJ54S138FK
pins: 2 A (in), 3 B (in), 4 C (in), 5 ~{OE}2A (in), 7 ~{OE}2B (in), 8 OE1 (in), 9 ~{Y}7 (out), 10 GND (power), 12 ~{Y}6 (out), 13 ~{Y}5 (out), 14 ~{Y}4 (out), 15 ~{Y}3 (out), 17 ~{Y}2 (out), 18 ~{Y}1 (out), 19 ~{Y}0 (out), 20 VCC (power)

## SNJ54S138J
designator U?
3-Line to 8-Line Decoder / Demultiplexer; Published: 8-Jun-2000; LatestRevisionDate: 04-Mar-2005; LatestRevisionNote: Stylized 3D Model Added.; DatasheetVersion: Mar-1988; PackageVersion: Jun-1999; PackageReference: J016; Publisher: Altium Limited; PackageDescription: DIP; 16 Leads; Row Spacing 7.62 mm; Pitch 2.54 mm; ComponentLink1Description: Manufacturer Link; ComponentLink1URL: http://www.ti.com/; ComponentLink2Description: Datasheet; ComponentLink2URL: http://www-s.ti.com/sc/ds/sn74ls138.pdf
footprint J016 (DIP; 16 Leads; Row Spacing 7.62 mm; Pitch 2.54 mm)
3D model J016 (DIP; 16 Leads; Row Spacing 7.62 mm; Pitch 2.54 mm)
signal-integrity model SNJ54S138J
pins: 1 A (in), 2 B (in), 3 C (in), 4 ~{OE}2A (in), 5 ~{OE}2B (in), 6 OE1 (in), 7 ~{Y}7 (out), 8 GND (power), 9 ~{Y}6 (out), 10 ~{Y}5 (out), 11 ~{Y}4 (out), 12 ~{Y}3 (out), 13 ~{Y}2 (out), 14 ~{Y}1 (out), 15 ~{Y}0 (out), 16 VCC (power)

## SNJ54S138W
designator U?
3-Line to 8-Line Decoder / Demultiplexer; Published: 8-Jun-2000; LatestRevisionDate: 04-Mar-2005; LatestRevisionNote: Stylized 3D Model Added.; DatasheetVersion: Mar-1988; PackageVersion: Jan-1995; PackageReference: W016; Publisher: Altium Limited; PackageDescription: DFP; 16 Leads; Body 10.9 x 7.2 mm (LxW max); Pitch 1.27 mm; Code_JEDEC: MO-092-AC; ComponentLink1Description: Manufacturer Link; ComponentLink1URL: http://www.ti.com/; ComponentLink2Description: Datasheet; ComponentLink2URL: http://www-s.ti.com/sc/ds/sn74ls138.pdf
footprint W016 (DFP; 16 Leads; Body 10.9 x 7.2 mm (LxW max); Pitch 1.27 mm)
3D model W016 (DFP; 16 Leads; Body 10.9 x 7.2 mm (LxW max); Pitch 1.27 mm)
signal-integrity model SNJ54S138W
pins: 1 A (in), 2 B (in), 3 C (in), 4 ~{OE}2A (in), 5 ~{OE}2B (in), 6 OE1 (in), 7 ~{Y}7 (out), 8 GND (power), 9 ~{Y}6 (out), 10 ~{Y}5 (out), 11 ~{Y}4 (out), 12 ~{Y}3 (out), 13 ~{Y}2 (out), 14 ~{Y}1 (out), 15 ~{Y}0 (out), 16 VCC (power)

## SNJ54S139FK
designator U?
Dual 2-Line to 4-Line Decoder / Demultiplexer; Note: Pins 1, 6, 11 and 16 are not connected and not drawn.; Published: 8-Jun-2000; LatestRevisionDate: 17-Jul-2002; LatestRevisionNote: Re-released for DXP Platform.; DatasheetVersion: Mar-1988; PackageVersion: 1998; PackageReference: FK020; Publisher: Altium Limited; PackageDescription: Leadless Chip Carrier; 20 Terminals; Body 8.9 x 8.9 mm; ComponentLink1Description: Manufacturer Link; ComponentLink1URL: http://www.ti.com/; ComponentLink2Description: Datasheet; ComponentLink2URL: http://www-s.ti.com/sc/ds/sn74ls139a.pdf
footprint FK020 (Leadless Chip Carrier; 20 Terminals; Body 8.9 x 8.9 mm)
signal-integrity model SNJ54S139FK
pins on every part: 10 GND (power) hidden to GND, 20 VCC (power) hidden to VCC
part A pins: 2 ~{OE} (in), 3 A (in), 4 B (in), 5 ~{Y}0 (out), 7 ~{Y}1 (out), 8 ~{Y}2 (out), 9 ~{Y}3 (out)
part B pins: 12 ~{Y}3 (out), 13 ~{Y}2 (out), 14 ~{Y}1 (out), 15 ~{Y}0 (out), 17 B (in), 18 A (in), 19 ~{OE} (in)

## SNJ54S139J
designator U?
Dual 2-Line to 4-Line Decoder / Demultiplexer; Published: 8-Jun-2000; LatestRevisionDate: 04-Mar-2005; LatestRevisionNote: Stylized 3D Model Added.; DatasheetVersion: Mar-1988; PackageVersion: Jun-1999; PackageReference: J016; Publisher: Altium Limited; PackageDescription: DIP; 16 Leads; Row Spacing 7.62 mm; Pitch 2.54 mm; ComponentLink1Description: Manufacturer Link; ComponentLink1URL: http://www.ti.com/; ComponentLink2Description: Datasheet; ComponentLink2URL: http://www-s.ti.com/sc/ds/sn74ls139a.pdf
footprint J016 (DIP; 16 Leads; Row Spacing 7.62 mm; Pitch 2.54 mm)
3D model J016 (DIP; 16 Leads; Row Spacing 7.62 mm; Pitch 2.54 mm)
signal-integrity model SNJ54S139J
pins on every part: 8 GND (power) hidden to GND, 16 VCC (power) hidden to VCC
part A pins: 1 ~{OE} (in), 2 A (in), 3 B (in), 4 ~{Y}0 (out), 5 ~{Y}1 (out), 6 ~{Y}2 (out), 7 ~{Y}3 (out)
part B pins: 9 ~{Y}3 (out), 10 ~{Y}2 (out), 11 ~{Y}1 (out), 12 ~{Y}0 (out), 13 B (in), 14 A (in), 15 ~{OE} (in)

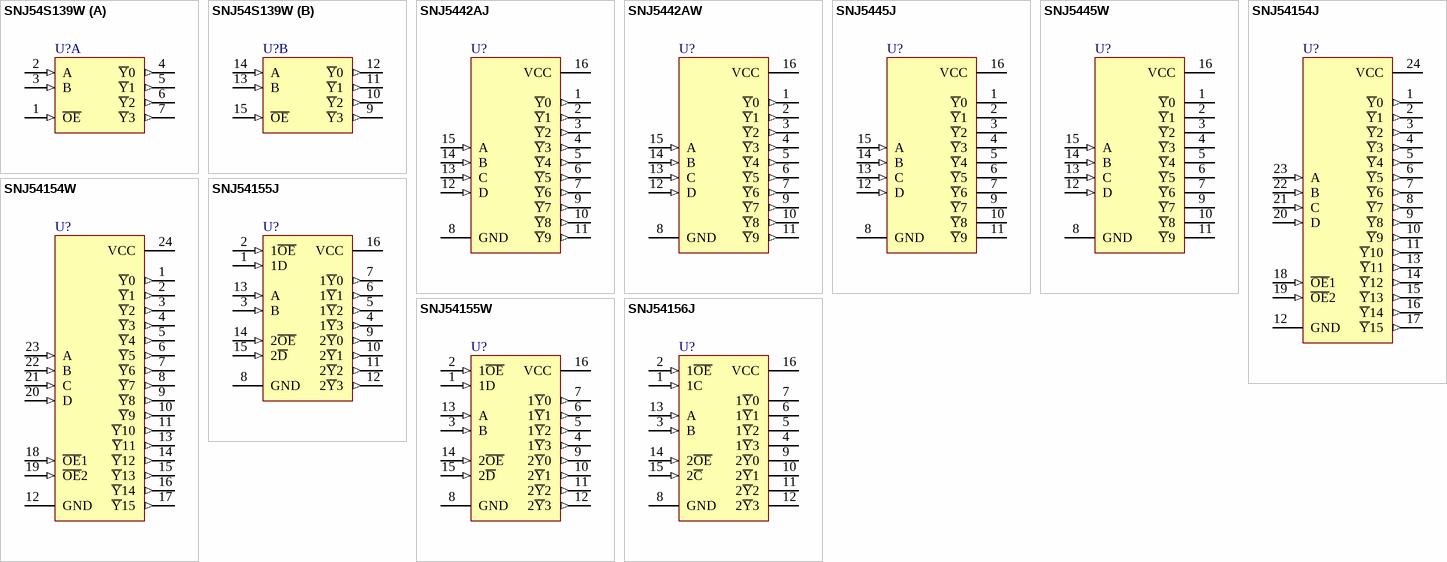
[diagram p10: symbols SNJ54S139W to SNJ54156J]

## SNJ54S139W
designator U?
Dual 2-Line to 4-Line Decoder / Demultiplexer; Published: 8-Jun-2000; LatestRevisionDate: 04-Mar-2005; LatestRevisionNote: Stylized 3D Model Added.; DatasheetVersion: Mar-1988; PackageVersion: Jan-1995; PackageReference: W016; Publisher: Altium Limited; PackageDescription: DFP; 16 Leads; Body 10.9 x 7.2 mm (LxW max); Pitch 1.27 mm; Code_JEDEC: MO-092-AC; ComponentLink1Description: Manufacturer Link; ComponentLink1URL: http://www.ti.com/; ComponentLink2Description: Datasheet; ComponentLink2URL: http://www-s.ti.com/sc/ds/sn74ls139a.pdf
footprint W016 (DFP; 16 Leads; Body 10.9 x 7.2 mm (LxW max); Pitch 1.27 mm)
3D model W016 (DFP; 16 Leads; Body 10.9 x 7.2 mm (LxW max); Pitch 1.27 mm)
signal-integrity model SNJ54S139W
pins on every part: 8 GND (power) hidden to GND, 16 VCC (power) hidden to VCC
part A pins: 1 ~{OE} (in), 2 A (in), 3 B (in), 4 ~{Y}0 (out), 5 ~{Y}1 (out), 6 ~{Y}2 (out), 7 ~{Y}3 (out)
part B pins: 9 ~{Y}3 (out), 10 ~{Y}2 (out), 11 ~{Y}1 (out), 12 ~{Y}0 (out), 13 B (in), 14 A (in), 15 ~{OE} (in)

## SNJ5442AJ
designator U?
4-Line BCD to 10-Line Decimal Decoder; Published: 8-Jun-2000; LatestRevisionDate: 04-Mar-2005; LatestRevisionNote: Stylized 3D Model Added.; DatasheetVersion: Mar-1988; PackageVersion: Jun-1999; PackageReference: J016D; Publisher: Altium Limited; PackageDescription: DIP; 16 Leads; Row Spacing 7.62 mm; Pitch 2.54 mm; ComponentLink1Description: Manufacturer Link; ComponentLink1URL: http://www.ti.com/; ComponentLink2Description: Datasheet; ComponentLink2URL: http://www-s.ti.com/sc/ds/sn5442a.pdf
footprint J016D (DIP; 16 Leads; Row Spacing 7.62 mm; Pitch 2.54 mm)
3D model J016 (DIP; 16 Leads; Row Spacing 7.62 mm; Pitch 2.54 mm)
signal-integrity model SNJ5442AJ
pins: 1 ~{Y}0 (out), 2 ~{Y}1 (out), 3 ~{Y}2 (out), 4 ~{Y}3 (out), 5 ~{Y}4 (out), 6 ~{Y}5 (out), 7 ~{Y}6 (out), 8 GND (power), 9 ~{Y}7 (out), 10 ~{Y}8 (out), 11 ~{Y}9 (out), 12 D (in), 13 C (in), 14 B (in), 15 A (in), 16 VCC (power)

## SNJ5442AW
designator U?
4-Line BCD to 10-Line Decimal Decoder; Published: 8-Jun-2000; LatestRevisionDate: 04-Mar-2005; LatestRevisionNote: Stylized 3D Model Added.; DatasheetVersion: Mar-1988; PackageVersion: Jan-1995; PackageReference: W016; Publisher: Altium Limited; PackageDescription: DFP; 16 Leads; Body 10.9 x 7.2 mm (LxW max); Pitch 1.27 mm; Code_JEDEC: MO-092-AC; ComponentLink1Description: Manufacturer Link; ComponentLink1URL: http://www.ti.com/; ComponentLink2Description: Datasheet; ComponentLink2URL: http://www-s.ti.com/sc/ds/sn5442a.pdf
footprint W016 (DFP; 16 Leads; Body 10.9 x 7.2 mm (LxW max); Pitch 1.27 mm)
3D model W016 (DFP; 16 Leads; Body 10.9 x 7.2 mm (LxW max); Pitch 1.27 mm)
signal-integrity model SNJ5442AW
pins: 1 ~{Y}0 (out), 2 ~{Y}1 (out), 3 ~{Y}2 (out), 4 ~{Y}3 (out), 5 ~{Y}4 (out), 6 ~{Y}5 (out), 7 ~{Y}6 (out), 8 GND (power), 9 ~{Y}7 (out), 10 ~{Y}8 (out), 11 ~{Y}9 (out), 12 D (in), 13 C (in), 14 B (in), 15 A (in), 16 VCC (power)

## SNJ5445J
designator U?
BCD-to-Decimal Decoders / Drivers; Published: 8-Jun-2000; LatestRevisionDate: 04-Mar-2005; LatestRevisionNote: Stylized 3D Model Added.; DatasheetVersion: Mar-1988; PackageVersion: Jun-1999; PackageReference: J016D; Publisher: Altium Limited; PackageDescription: DIP; 16 Leads; Row Spacing 7.62 mm; Pitch 2.54 mm; ComponentLink1Description: Manufacturer Link; ComponentLink1URL: http://www.ti.com/; ComponentLink2Description: Datasheet; ComponentLink2URL: http://www-s.ti.com/sc/ds/sn5445.pdf
footprint J016D (DIP; 16 Leads; Row Spacing 7.62 mm; Pitch 2.54 mm)
3D model J016 (DIP; 16 Leads; Row Spacing 7.62 mm; Pitch 2.54 mm)
signal-integrity model SNJ5445J
pins: 1 ~{Y}0 (oc), 2 ~{Y}1 (oc), 3 ~{Y}2 (oc), 4 ~{Y}3 (oc), 5 ~{Y}4 (oc), 6 ~{Y}5 (oc), 7 ~{Y}6 (oc), 8 GND (power), 9 ~{Y}7 (oc), 10 ~{Y}8 (oc), 11 ~{Y}9 (oc), 12 D (in), 13 C (in), 14 B (in), 15 A (in), 16 VCC (power)

## SNJ5445W
designator U?
BCD-to-Decimal Decoders / Drivers; Published: 8-Jun-2000; LatestRevisionDate: 04-Mar-2005; LatestRevisionNote: Stylized 3D Model Added.; DatasheetVersion: Mar-1988; PackageVersion: Jan-1995; PackageReference: W016; Publisher: Altium Limited; PackageDescription: DFP; 16 Leads; Body 10.9 x 7.2 mm (LxW max); Pitch 1.27 mm; Code_JEDEC: MO-092-AC; ComponentLink1Description: Manufacturer Link; ComponentLink1URL: http://www.ti.com/; ComponentLink2Description: Datasheet; ComponentLink2URL: http://www-s.ti.com/sc/ds/sn5445.pdf
footprint W016 (DFP; 16 Leads; Body 10.9 x 7.2 mm (LxW max); Pitch 1.27 mm)
3D model W016 (DFP; 16 Leads; Body 10.9 x 7.2 mm (LxW max); Pitch 1.27 mm)
signal-integrity model SNJ5445W
pins: 1 ~{Y}0 (oc), 2 ~{Y}1 (oc), 3 ~{Y}2 (oc), 4 ~{Y}3 (oc), 5 ~{Y}4 (oc), 6 ~{Y}5 (oc), 7 ~{Y}6 (oc), 8 GND (power), 9 ~{Y}7 (oc), 10 ~{Y}8 (oc), 11 ~{Y}9 (oc), 12 D (in), 13 C (in), 14 B (in), 15 A (in), 16 VCC (power)

## SNJ54154J
designator U?
4-Line to 16-Line Decoder / Demultiplexer; Published: 8-Jun-2000; LatestRevisionDate: 04-Mar-2005; LatestRevisionNote: Stylized 3D Model Added.; DatasheetVersion: Mar-1988; PackageVersion: Nov-1997; PackageReference: J024; Publisher: Altium Limited; PackageDescription: DIP; 24 Leads; Row Spacing 15.24 mm; Pitch 2.54 mm; ComponentLink1Description: Manufacturer Link; ComponentLink1URL: http://www.ti.com/; ComponentLink2Description: Datasheet; ComponentLink2URL: http://www-s.ti.com/sc/ds/sn74154.pdf
footprint J024 (DIP; 24 Leads; Row Spacing 15.24 mm; Pitch 2.54 mm)
3D model J024 (DIP; 24 Leads; Row Spacing 15.24 mm; Pitch 2.54 mm)
signal-integrity model SNJ54154J
pins: 1 ~{Y}0 (out), 2 ~{Y}1 (out), 3 ~{Y}2 (out), 4 ~{Y}3 (out), 5 ~{Y}4 (out), 6 ~{Y}5 (out), 7 ~{Y}6 (out), 8 ~{Y}7 (out), 9 ~{Y}8 (out), 10 ~{Y}9 (out), 11 ~{Y}10 (out), 12 GND (power), 13 ~{Y}11 (out), 14 ~{Y}12 (out), 15 ~{Y}13 (out), 16 ~{Y}14 (out), 17 ~{Y}15 (out), 18 ~{OE}1 (in), 19 ~{OE}2 (in), 20 D (in), 21 C (in), 22 B (in), 23 A (in), 24 VCC (power)

## SNJ54154W
designator U?
4-Line to 16-Line Decoder / Demultiplexer; Published: 8-Jun-2000; LatestRevisionDate: 04-Mar-2005; LatestRevisionNote: Stylized 3D Model Added.; DatasheetVersion: Mar-1988; PackageVersion: Oct-1994; PackageReference: W024; Publisher: Altium Limited; PackageDescription: DFP; 24 Leads; Body 16.3 x 9.5 mm (LxW max); Pitch 1.27 mm; Code_JEDEC: MO-070-AD; ComponentLink1Description: Manufacturer Link; ComponentLink1URL: http://www.ti.com/; ComponentLink2Description: Datasheet; ComponentLink2URL: http://www-s.ti.com/sc/ds/sn74154.pdf
footprint W024 (DFP; 24 Leads; Body 16.3 x 9.5 mm (LxW max); Pitch 1.27 mm)
3D model W024 (DFP; 24 Leads; Body 16.3 x 9.5 mm (LxW max); Pitch 1.27 mm)
signal-integrity model SNJ54154W
pins: 1 ~{Y}0 (out), 2 ~{Y}1 (out), 3 ~{Y}2 (out), 4 ~{Y}3 (out), 5 ~{Y}4 (out), 6 ~{Y}5 (out), 7 ~{Y}6 (out), 8 ~{Y}7 (out), 9 ~{Y}8 (out), 10 ~{Y}9 (out), 11 ~{Y}10 (out), 12 GND (power), 13 ~{Y}11 (out), 14 ~{Y}12 (out), 15 ~{Y}13 (out), 16 ~{Y}14 (out), 17 ~{Y}15 (out), 18 ~{OE}1 (in), 19 ~{OE}2 (in), 20 D (in), 21 C (in), 22 B (in), 23 A (in), 24 VCC (power)

## SNJ54155J
designator U?
Dual 2-Line to 4-Line Decoder / Demultiplexer; ComponentAvailability: Obsolete; Published: 8-Jun-2000; LatestRevisionDate: 04-Mar-2005; LatestRevisionNote: Stylized 3D Model Added.; DatasheetVersion: Mar-1988; PackageVersion: Jun-1999; PackageReference: J016; Publisher: Altium Limited; PackageDescription: DIP; 16 Leads; Row Spacing 7.62 mm; Pitch 2.54 mm; ComponentLink1Description: Manufacturer Link; ComponentLink1URL: http://www.ti.com/; ComponentLink2Description: Datasheet; ComponentLink2URL: http://www-s.ti.com/sc/ds/sn74ls155a.pdf
footprint J016 (DIP; 16 Leads; Row Spacing 7.62 mm; Pitch 2.54 mm)
3D model J016 (DIP; 16 Leads; Row Spacing 7.62 mm; Pitch 2.54 mm)
signal-integrity model SNJ54155J
pins: 1 1D (in), 2 1~{OE} (in), 3 B (in), 4 1~{Y}3 (out), 5 1~{Y}2 (out), 6 1~{Y}1 (out), 7 1~{Y}0 (out), 8 GND (power), 9 2~{Y}0 (out), 10 2~{Y}1 (out), 11 2~{Y}2 (out), 12 2~{Y}3 (out), 13 A (in), 14 2~{OE} (in), 15 2~{D} (in), 16 VCC (power)

## SNJ54155W
designator U?
Dual 2-Line to 4-Line Decoder / Demultiplexer; ComponentAvailability: Obsolete; Published: 8-Jun-2000; LatestRevisionDate: 04-Mar-2005; LatestRevisionNote: Stylized 3D Model Added.; DatasheetVersion: Mar-1988; PackageVersion: Jan-1995; PackageReference: W016; Publisher: Altium Limited; PackageDescription: DFP; 16 Leads; Body 10.9 x 7.2 mm (LxW max); Pitch 1.27 mm; Code_JEDEC: MO-092-AC; ComponentLink1Description: Manufacturer Link; ComponentLink1URL: http://www.ti.com/; ComponentLink2Description: Datasheet; ComponentLink2URL: http://www-s.ti.com/sc/ds/sn74ls155a.pdf
footprint W016 (DFP; 16 Leads; Body 10.9 x 7.2 mm (LxW max); Pitch 1.27 mm)
3D model W016 (DFP; 16 Leads; Body 10.9 x 7.2 mm (LxW max); Pitch 1.27 mm)
signal-integrity model SNJ54155W
pins: 1 1D (in), 2 1~{OE} (in), 3 B (in), 4 1~{Y}3 (out), 5 1~{Y}2 (out), 6 1~{Y}1 (out), 7 1~{Y}0 (out), 8 GND (power), 9 2~{Y}0 (out), 10 2~{Y}1 (out), 11 2~{Y}2 (out), 12 2~{Y}3 (out), 13 A (in), 14 2~{OE} (in), 15 2~{D} (in), 16 VCC (power)

## SNJ54156J
designator U?
Dual 2-Line to 4-Line Decoder / Demultiplexer; Published: 8-Jun-2000; LatestRevisionDate: 04-Mar-2005; LatestRevisionNote: Stylized 3D Model Added.; DatasheetVersion: Mar-1988; PackageVersion: Jun-1999; PackageReference: J016D; Publisher: Altium Limited; PackageDescription: DIP; 16 Leads; Row Spacing 7.62 mm; Pitch 2.54 mm; ComponentLink1Description: Manufacturer Link; ComponentLink1URL: http://www.ti.com/; ComponentLink2Description: Datasheet; ComponentLink2URL: http://www-s.ti.com/sc/ds/sn74ls156.pdf
footprint J016D (DIP; 16 Leads; Row Spacing 7.62 mm; Pitch 2.54 mm)
3D model J016 (DIP; 16 Leads; Row Spacing 7.62 mm; Pitch 2.54 mm)
signal-integrity model SNJ54156J
pins: 1 1C (in), 2 1~{OE} (in), 3 B (in), 4 1~{Y}3 (oc), 5 1~{Y}2 (oc), 6 1~{Y}1 (oc), 7 1~{Y}0 (oc), 8 GND (power), 9 2~{Y}0 (oc), 10 2~{Y}1 (oc), 11 2~{Y}2 (oc), 12 2~{Y}3 (oc), 13 A (in), 14 2~{OE} (in), 15 2~{C} (in), 16 VCC (power)